# Altium schematic symbol library SNES TST.SCHLIB: 44 symbols
Pins are listed as number, name and electrical type; pins without a type are passive.

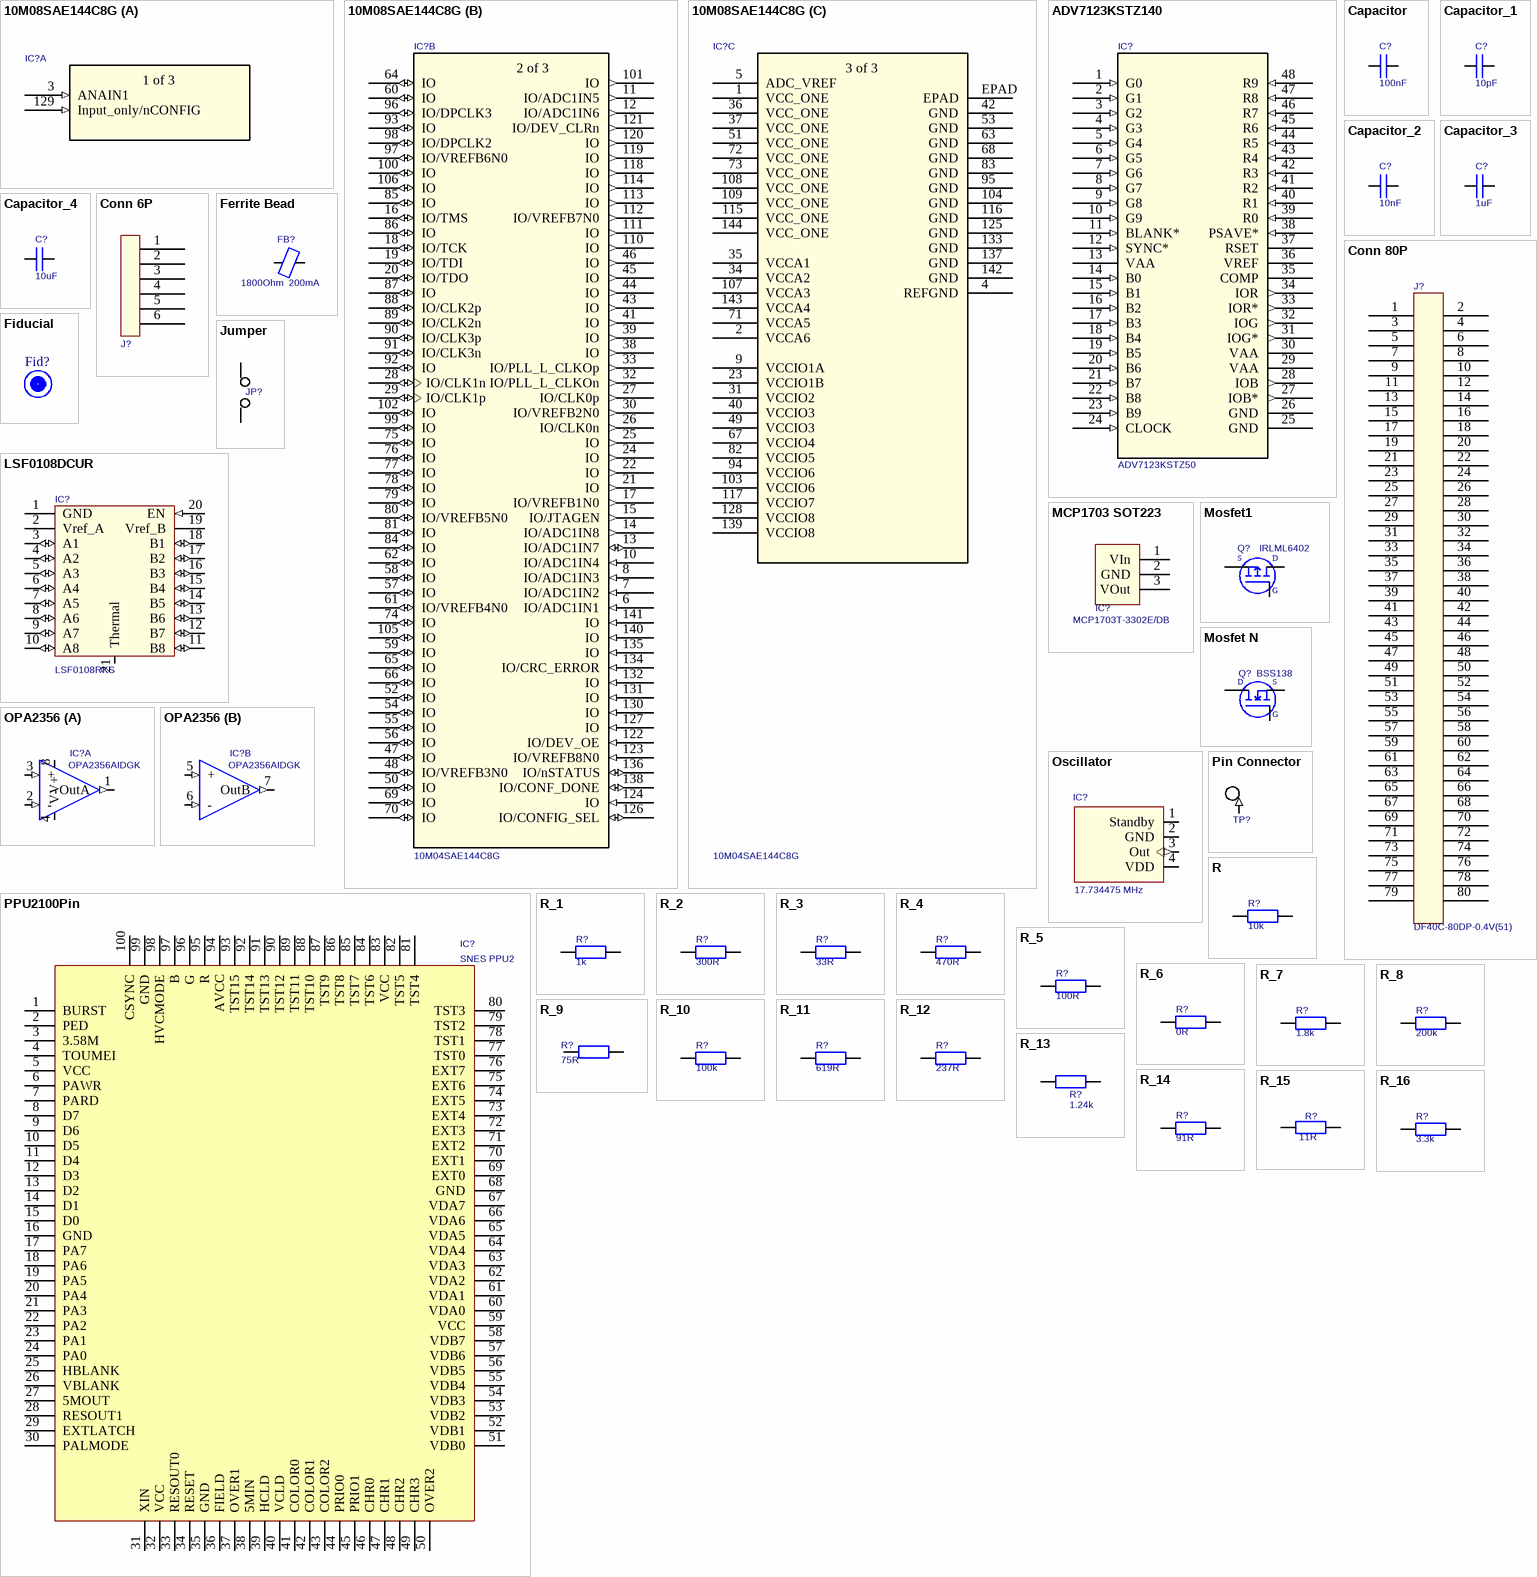
[diagram p0: symbols 10M08SAE144C8G to R_16]

## 10M08SAE144C8G
designator IC?, comment 10M04SAE144C8G
No Description Available; Manufacturer_Part_Number: 10M08SAE144C8G; SourceLibrary: Intel_2020-01-10; Built_By: EMA_Cory; Vendor: Intel; Copyright: Copyright (C) 2018 Accelerated Designs. All rights reserved; RefDes: RefDes; Type: DEV
footprint EQFP-144_A:1P65_
part A pins: 3 ANAIN1 (in), 129 Input_only/nCONFIG (in)
part B pins: 6 IO/ADC1IN1 (in), 7 IO/ADC1IN2 (in), 8 IO/ADC1IN3 (in), 10 IO/ADC1IN4 (in), 11 IO/ADC1IN5 (out), 12 IO/ADC1IN6 (out), 13 IO/ADC1IN7 (io), 14 IO/ADC1IN8 (out), 15 IO/JTAGEN (out), 16 IO/TMS (io), 17 IO/VREFB1N0 (out), 18 IO/TCK (io), 19 IO/TDI (io), 20 IO/TDO (io), 21 IO (out), 22 IO (out), 24 IO (out), 25 IO (out), 26 IO/CLK0n (out), 27 IO/CLK0p (out), 28 IO/CLK1n (io), 29 IO/CLK1p (io), 30 IO/VREFB2N0 (out), 32 IO/PLL_L_CLKOn (out), 33 IO/PLL_L_CLKOp (out), 38 IO (out), 39 IO (out), 41 IO (out), 43 IO (out), 44 IO (out), 45 IO (out), 46 IO (out), 47 IO (io), 48 IO/VREFB3N0 (io), 50 IO (io), 52 IO (io), 54 IO (io), 55 IO (io), 56 IO (io), 57 IO (io), 58 IO (io), 59 IO (io), 60 IO (io), 61 IO/VREFB4N0 (io), 62 IO (io), 64 IO (io), 65 IO (io), 66 IO (io), 69 IO (io), 70 IO (io), 74 IO (io), 75 IO (io), 76 IO (io), 77 IO (io), 78 IO (io), 79 IO (io), 80 IO/VREFB5N0 (io), 81 IO (io), 84 IO (io), 85 IO (io), 86 IO (io), 87 IO (io), 88 IO/CLK2p (io), 89 IO/CLK2n (io), 90 IO/CLK3p (io), 91 IO/CLK3n (io), 92 IO (io), 93 IO (io), 96 IO/DPCLK3 (io), 97 IO/VREFB6N0 (io), 98 IO/DPCLK2 (io), 99 IO (io), 100 IO (io), 101 IO (out), 102 IO (io), 105 IO (io), 106 IO (io), 110 IO (out), 111 IO (out), 112 IO/VREFB7N0 (out), 113 IO (out), 114 IO (out), 118 IO (out), 119 IO (out), 120 IO (out), 121 IO/DEV_CLRn (out), 122 IO/DEV_OE (in), 123 IO/VREFB8N0 (in), 124 IO (in), 126 IO/CONFIG_SEL (io), 127 IO (in), 130 IO (in), 131 IO (in), 132 IO (in), 134 IO/CRC_ERROR (in), 135 IO (in), 136 IO/nSTATUS (io), 138 IO/CONF_DONE (io), 140 IO (in), 141 IO (in)
part C pins: 1 VCC_ONE (power), 2 VCCA6 (power), 4 REFGND, 5 ADC_VREF (power), 9 VCCIO1A (power), 23 VCCIO1B (power), 31 VCCIO2 (power), 34 VCCA2 (power), 35 VCCA1 (power), 36 VCC_ONE (power), 37 VCC_ONE (power), 40 VCCIO3 (power), 42 GND, 49 VCCIO3 (power), 51 VCC_ONE (power), 53 GND, 63 GND, 67 VCCIO4 (power), 68 GND, 71 VCCA5 (power), 72 VCC_ONE (power), 73 VCC_ONE (power), 82 VCCIO5 (power), 83 GND, 94 VCCIO6 (power), 95 GND, 103 VCCIO6 (power), 104 GND, 107 VCCA3 (power), 108 VCC_ONE (power), 109 VCC_ONE (power), 115 VCC_ONE (power), 116 GND, 117 VCCIO7 (power), 125 GND, 128 VCCIO8 (power), 133 GND, 137 GND, 139 VCCIO8 (power), 142 GND, 143 VCCA4 (power), 144 VCC_ONE (power), EPAD
part A text: 1 of 3
part B text: 2 of 3
part C text: 3 of 3

## ADV7123KSTZ140
designator IC?, comment Manufacturer_Part_Number: ADV7123KSTZ50  (hidden comment: ADV7123)
10Bit Video DAC; Vendor: Analog Devices Inc; Built_By: EMA_UL_Team; SourceLibrary: Analog_2012-01-01_8; Copyright: Copyright (C) 2018 Accelerated Designs. All rights reserved; RefDes: RefDes; Type: DEV
footprint ST_48_ADI
pins: 1 G0 (in), 2 G1 (in), 3 G2 (in), 4 G3 (in), 5 G4 (in), 6 G5 (in), 7 G6 (in), 8 G7 (in), 9 G8 (in), 10 G9 (in), 11 BLANK* (in), 12 SYNC* (in), 13 VAA (power), 14 B0 (in), 15 B1 (in), 16 B2 (in), 17 B3 (in), 18 B4 (in), 19 B5 (in), 20 B6 (in), 21 B7 (in), 22 B8 (in), 23 B9 (in), 24 CLOCK (in), 25 GND (power), 26 GND (power), 27 IOB* (out), 28 IOB (out), 29 VAA (power), 30 VAA (power), 31 IOG* (out), 32 IOG (out), 33 IOR* (out), 34 IOR (out), 35 COMP, 36 VREF, 37 RSET, 38 PSAVE* (in), 39 R0 (in), 40 R1 (in), 41 R2 (in), 42 R3 (in), 43 R4 (in), 44 R5 (in), 45 R6 (in), 46 R7 (in), 47 R8 (in), 48 R9 (in)

## Capacitor
designator C?, comment 100nF
Nominal Voltage: 10V; Dielectric: X7R; Tolerance: +-20%; Value: 100nF
footprint 0201_Chip
footprint 0603_Chip Plated Via
footprint 2220_CHIP (Chip Capacitor, 2-Leads, Body 5,70x5,00mm, IPC Medium Density)
footprint 1812_CHIP
footprint 0402_Chip_RF
footprint Cap_0402_Chip
footprint Cap_0603_Chip
footprint Cap_0805_Chip
footprint Cap_1206_Chip
pins: 1, 2

## Capacitor_1
designator C?, comment 10pF
Nominal Voltage: 10V; Dielectric: X7R; Tolerance: +-20%; Value: 10pF
footprint 0201_Chip
footprint 0603_Chip Plated Via
footprint 2220_CHIP (Chip Capacitor, 2-Leads, Body 5,70x5,00mm, IPC Medium Density)
footprint 1812_CHIP
footprint 0402_Chip_RF
footprint Cap_0402_Chip
footprint Cap_0603_Chip
footprint Cap_0805_Chip
footprint Cap_1206_Chip
pins: 1, 2

## Capacitor_2
designator C?, comment 10nF
Nominal Voltage: 10V; Dielectric: X7R; Tolerance: +-20%; Value: 10nF
footprint 0201_Chip
footprint 0603_Chip Plated Via
footprint 2220_CHIP (Chip Capacitor, 2-Leads, Body 5,70x5,00mm, IPC Medium Density)
footprint 1812_CHIP
footprint 0402_Chip_RF
footprint Cap_0402_Chip
footprint Cap_0603_Chip
footprint Cap_0805_Chip
footprint Cap_1206_Chip
pins: 1, 2

## Capacitor_3
designator C?, comment 1uF
Nominal Voltage: 10V; Dielectric: X7R; Tolerance: +-20%; Value: 1uF
footprint 0201_Chip
footprint 0603_Chip Plated Via
footprint 2220_CHIP (Chip Capacitor, 2-Leads, Body 5,70x5,00mm, IPC Medium Density)
footprint 1812_CHIP
footprint 0402_Chip_RF
footprint Cap_0402_Chip
footprint Cap_0603_Chip
footprint Cap_0805_Chip
footprint Cap_1206_Chip
pins: 1, 2

## Capacitor_4
designator C?, comment 10uF
Nominal Voltage: 25V; Dielectric: X7R; Tolerance: +-20%; Value: 10uF
footprint 0201_Chip
footprint 0603_Chip Plated Via
footprint 2220_CHIP (Chip Capacitor, 2-Leads, Body 5,70x5,00mm, IPC Medium Density)
footprint 1812_CHIP
footprint 0402_Chip_RF
footprint Cap_0402_Chip
footprint Cap_0603_Chip
footprint Cap_0805_Chip
footprint Cap_1206_Chip
pins: 1, 2

## Conn 6P
designator J?  (value not drawn)
6 Pole Connector
footprint Con6P
pins: 1, 2, 3, 4, 5, 6

## Conn 80P
designator J?, comment Manufacturer_Part_Number: DF40C-80DP-0.4V(51)  (hidden comment: 80Pole Connector)
Vendor: Hirose Connector
footprint DF40C-80DS
footprint DF40C-80DP
pins: 1, 2, 3, 4, 5, 6, 7, 8, 9, 10, 11, 12, 13, 14, 15, 16, 17, 18, 19, 20, 21, 22, 23, 24, 25, 26, 27, 28, 29, 30, 31, 32, 33, 34, 35, 36, 37, 38, 39, 40, 41, 42, 43, 44, 45, 46, 47, 48, 49, 50, 51, 52, 53, 54, 55, 56, 57, 58, 59, 60, 61, 62, 63, 64, 65, 66, 67, 68, 69, 70, 71, 72, 73, 74, 75, 76, 77, 78, 79, 80

## Ferrite Bead
designator FB?, comment 1800Ohm  200mA
Manufacturer_Part_Number: MMZ1005S182ET000; Vendor: TDK; Value: 1800Ohm  200mA
footprint 0201_Chip
footprint 0603_Chip
footprint 0805_Chip
footprint 1206_Chip
footprint 1210_Chip
footprint 1812_Chip
footprint Ind_0402_Chip
pins: 1, 2

## Fiducial
designator Fid?  (value not drawn)
footprint Fiducial_1_side

## Jumper
designator JP?  (value not drawn)
footprint Jumper
footprint Jumper Big
pins: 1 0, 2 0

## LSF0108DCUR
designator IC?, comment Manufacturer_Part_Number: LSF0108RKS  (hidden comment: LSF0108)
8-bit level shifter; Vendor: Texas Instruments
footprint VQFN20 (QFN, 20-Leads, Body 2.50x4.50mm, Pitch 0.50mm, Thermal Pad 1.00x3.00mm, IPC Low Density)
pins: 1 GND (power), 2 Vref_A (power), 3 A1 (io), 4 A2 (io), 5 A3 (io), 6 A4 (io), 7 A5 (io), 8 A6 (io), 9 A7 (io), 10 A8 (io), 11 B8 (io), 12 B7 (io), 13 B6 (io), 14 B5 (io), 15 B4 (io), 16 B3 (io), 17 B2 (io), 18 B1 (io), 19 Vref_B (power), 20 EN (in), 21 Thermal

## MCP1703 SOT223
designator IC?, comment Manufacturer_Part_Number: MCP1703T-3302E/DB  (hidden comment: MCP1703T)
3.3V Regulator; Vendor: Microchip
footprint SOT223-3 (SOT223, 4-Leads, Body 6.50x7.00mm (avg), Pitch 2.30mm, IPC Medium Density)
pins: 1 VIn, 2 GND, 3 VOut

## Mosfet1
designator Q?, comment IRLML6402
Vendor: Diodes; Manufacturer_Part_Number: IRLML6402
footprint SOT23_FET
pins: D, G, S

## Mosfet N
designator Q?, comment BSS138
Vendor: Infenion; Manufacturer_Part_Number: BSS138
footprint SOT23_FET
pins: D, G, S

## OPA2356
designator IC?  Manufacturer_Part_Number: OPA2356AIDGK  (hidden comment: OPA2356)
Vendor: Analog Devices
footprint MSOP8 (TSOP, 8-Leads, Body 3.00x3.00mm, Pitch 0.65mm, IPC Medium Density)
part A pins: 1 OutA (out), 2 - (in), 3 + (in), 4 V- (power), 8 V+ (power)
part B pins: 5 + (in), 6 - (in), 7 OutB (out)

## Oscillator
designator IC?, comment 17.734475 MHz
Oscillator; Manufacturer_Part_Number: LFSPXO020648Bulk; Vendor: IQD Frequency; Frequency: 17.734475 MHz
footprint Quarz 7.5mm
pins: 1 Standby, 2 GND (power), 3 Out (out), 4 VDD (power)

## Pin Connector
designator TP?  (value not drawn)
footprint Pin Connector
footprint Pin Connector Small
footprint Pin Connector With Hole
footprint Pin Connector Only Hole
pins: 1 0 (in)

## PPU2100Pin
designator IC?, comment SNES PPU2
PPU2; Vendor: Nintendo; Manufacturer_Part_Number: PPU2
footprint PPU100Pin
footprint PPU100Pin_Bottom_TOP_View
pins: 1 BURST, 2 PED, 3 3.58M, 4 TOUMEI, 5 VCC, 6 PAWR, 7 PARD, 8 D7, 9 D6, 10 D5, 11 D4, 12 D3, 13 D2, 14 D1, 15 D0, 16 GND, 17 PA7, 18 PA6, 19 PA5, 20 PA4, 21 PA3, 22 PA2, 23 PA1, 24 PA0, 25 HBLANK, 26 VBLANK, 27 5MOUT, 28 RESOUT1, 29 EXTLATCH, 30 PALMODE, 31 XIN, 32 VCC, 33 RESOUT0, 34 RESET, 35 GND, 36 FIELD, 37 OVER1, 38 5MIN, 39 HCLD, 40 VCLD, 41 COLOR0, 42 COLOR1, 43 COLOR2, 44 PRIO0, 45 PRIO1, 46 CHR0, 47 CHR1, 48 CHR2, 49 CHR3, 50 OVER2, 51 VDB0, 52 VDB1, 53 VDB2, 54 VDB3, 55 VDB4, 56 VDB5, 57 VDB6, 58 VDB7, 59 VCC, 60 VDA0, 61 VDA1, 62 VDA2, 63 VDA3, 64 VDA4, 65 VDA5, 66 VDA6, 67 VDA7, 68 GND, 69 EXT0, 70 EXT1, 71 EXT2, 72 EXT3, 73 EXT4, 74 EXT5, 75 EXT6, 76 EXT7, 77 TST0, 78 TST1, 79 TST2, 80 TST3, 81 TST4, 82 TST5, 83 VCC, 84 TST6, 85 TST7, 86 TST8, 87 TST9, 88 TST10, 89 TST11, 90 TST12, 91 TST13, 92 TST14, 93 TST15, 94 AVCC, 95 R, 96 G, 97 B, 98 HVCMODE, 99 GND, 100 CSYNC

## R
designator R?, comment 10k
Tolerance: +-1%; Value: 10k
footprint 0201_Chip
footprint 0805_Chip
footprint 1206_Chip
footprint 1210_Chip
footprint 1812_Chip
footprint 2512_CHIP
footprint Res_0402_Chip
footprint Res_0603_Chip
pins: 1, 2

## R_1
designator R?, comment 1k
Tolerance: +-1%; Value: 1k
footprint 0201_Chip
footprint 0805_Chip
footprint 1206_Chip
footprint 1210_Chip
footprint 1812_Chip
footprint 2512_CHIP
footprint Res_0402_Chip
footprint Res_0603_Chip
pins: 1, 2

## R_2
designator R?, comment 300R
Tolerance: +-1%; Value: 300R
footprint 0201_Chip
footprint 0805_Chip
footprint 1206_Chip
footprint 1210_Chip
footprint 1812_Chip
footprint 2512_CHIP
footprint Res_0402_Chip
footprint Res_0603_Chip
pins: 1, 2

## R_3
designator R?, comment 33R
Tolerance: +-1%; Value: 33R
footprint 0201_Chip
footprint 0805_Chip
footprint 1206_Chip
footprint 1210_Chip
footprint 1812_Chip
footprint 2512_CHIP
footprint Res_0402_Chip
footprint Res_0603_Chip
pins: 1, 2

## R_4
designator R?, comment 470R
Tolerance: +-1%; Value: 470R
footprint 0201_Chip
footprint 0805_Chip
footprint 1206_Chip
footprint 1210_Chip
footprint 1812_Chip
footprint 2512_CHIP
footprint Res_0402_Chip
footprint Res_0603_Chip
pins: 1, 2

## R_5
designator R?, comment 100R
Tolerance: +-1%; Value: 100R
footprint 0201_Chip
footprint 0805_Chip
footprint 1206_Chip
footprint 1210_Chip
footprint 1812_Chip
footprint 2512_CHIP
footprint Res_0402_Chip
footprint Res_0603_Chip
pins: 1, 2

## R_6
designator R?, comment 0R
Value: 0R
footprint 0201_Chip
footprint 0805_Chip
footprint 1206_Chip
footprint 1210_Chip
footprint 1812_Chip
footprint 2512_CHIP
footprint Res_0402_Chip
footprint Res_0603_Chip
pins: 1, 2

## R_7
designator R?, comment 1.8k
Tolerance: +-1%; Value: 1.8k
footprint 0201_Chip
footprint 0805_Chip
footprint 1206_Chip
footprint 1210_Chip
footprint 1812_Chip
footprint 2512_CHIP
footprint Res_0402_Chip
footprint Res_0603_Chip
pins: 1, 2

## R_8
designator R?, comment 200k
Tolerance: +-1%; Value: 200k
footprint 0201_Chip
footprint 0805_Chip
footprint 1206_Chip
footprint 1210_Chip
footprint 1812_Chip
footprint 2512_CHIP
footprint Res_0402_Chip
footprint Res_0603_Chip
pins: 1, 2

## R_9
designator R?, comment 75R
Tolerance: +-1%; Value: 75R
footprint 0201_Chip
footprint 0805_Chip
footprint 1206_Chip
footprint 1210_Chip
footprint 1812_Chip
footprint 2512_CHIP
footprint Res_0402_Chip
footprint Res_0603_Chip
pins: 1, 2

## R_10
designator R?, comment 100k
Tolerance: +-1%; Value: 100k
footprint 0201_Chip
footprint 0805_Chip
footprint 1206_Chip
footprint 1210_Chip
footprint 1812_Chip
footprint 2512_CHIP
footprint Res_0402_Chip
footprint Res_0603_Chip
pins: 1, 2

## R_11
designator R?, comment 619R
Tolerance: +-1%; Value: 619R
footprint 0201_Chip
footprint 0805_Chip
footprint 1206_Chip
footprint 1210_Chip
footprint 1812_Chip
footprint 2512_CHIP
footprint Res_0402_Chip
footprint Res_0603_Chip
pins: 1, 2

## R_12
designator R?, comment 237R
Tolerance: +-1%; Value: 237R
footprint 0201_Chip
footprint 0805_Chip
footprint 1206_Chip
footprint 1210_Chip
footprint 1812_Chip
footprint 2512_CHIP
footprint Res_0402_Chip
footprint Res_0603_Chip
pins: 1, 2

## R_13
designator R?, comment 1.24k
Tolerance: +-1%; Value: 1.24k
footprint 0201_Chip
footprint 0805_Chip
footprint 1206_Chip
footprint 1210_Chip
footprint 1812_Chip
footprint 2512_CHIP
footprint Res_0402_Chip
footprint Res_0603_Chip
pins: 1, 2

## R_14
designator R?, comment 91R
Tolerance: +-1%; Value: 91R
footprint 0201_Chip
footprint 0805_Chip
footprint 1206_Chip
footprint 1210_Chip
footprint 1812_Chip
footprint 2512_CHIP
footprint Res_0402_Chip
footprint Res_0603_Chip
pins: 1, 2

## R_15
designator R?, comment 11R
Tolerance: +-1%; Value: 11R
footprint 0201_Chip
footprint 0805_Chip
footprint 1206_Chip
footprint 1210_Chip
footprint 1812_Chip
footprint 2512_CHIP
footprint Res_0402_Chip
footprint Res_0603_Chip
pins: 1, 2

## R_16
designator R?, comment 3.3k
Tolerance: +-1%; Value: 3.3k
footprint 0201_Chip
footprint 0805_Chip
footprint 1206_Chip
footprint 1210_Chip
footprint 1812_Chip
footprint 2512_CHIP
footprint Res_0402_Chip
footprint Res_0603_Chip
pins: 1, 2

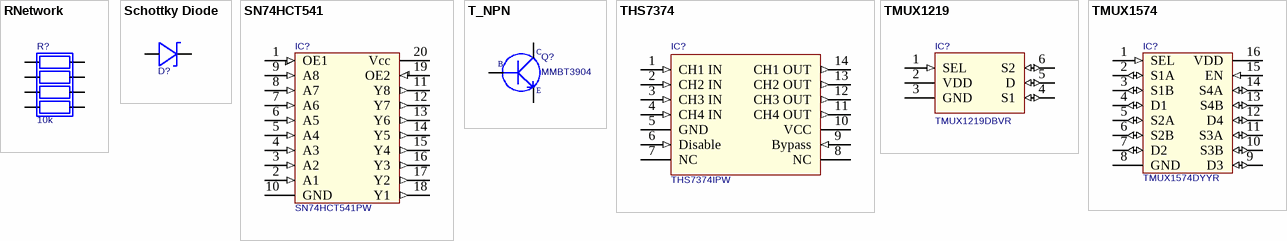
[diagram p1: symbols RNetwork to TMUX1574]

## RNetwork
designator R?, comment 10k
Tolerance: +-1%; Value: 10k
footprint 1206_Array_Chip (Chip Array, Concave, 8-Leads, Pitch 0.80mm,  Body 3.20x1.60mm,  IPC Medium Density)
pins: 1, 2, 3, 4, 5, 6, 7, 8

## Schottky Diode
designator D?  (value not drawn)
Manufacturer_Part_Number: BAT54WS-7-F; Vendor: Diodes
footprint SOT23
footprint SOD323 (SODFL, 2-Leads, Body 1.25x2.50mm, IPC Medium Density)
pins: 1 K, 2 A

## SN74HCT541
designator IC?  Manufacturer_Part_Number: SN74HCT541PW  (hidden comment: SN74HCT541)
Vendor: Texas Instruments
footprint TSSOP20 Narrow (TSOP, 20-Leads, Body 6,50x4,40mm, Pitch 0,65mm, IPC Medium Density)
pins: 1 OE1 (in), 2 A1 (in), 3 A2 (in), 4 A3 (in), 5 A4 (in), 6 A5 (in), 7 A6 (in), 8 A7 (in), 9 A8 (in), 10 GND (power), 11 Y8 (out), 12 Y7 (out), 13 Y6 (out), 14 Y5 (out), 15 Y4 (out), 16 Y3 (out), 17 Y2 (out), 18 Y1 (out), 19 OE2 (in), 20 Vcc (power)

## T_NPN
designator Q?, comment MMBT3904
Vendor: Diodes; Manufacturer_Part_Number: MMBT3904
footprint SOT23_Transistor
pins: B, C, E

## THS7374
designator IC?  Manufacturer_Part_Number: THS7374IPW  (hidden comment: THS7374)
Vendor: Texas Instruments
footprint TSSOP14
pins: 1 CH1 IN (in), 2 CH2 IN (in), 3 CH3 IN (in), 4 CH4 IN (in), 5 GND (power), 6 Disable (in), 7 NC, 8 NC, 9 Bypass (in), 10 VCC (power), 11 CH4 OUT (out), 12 CH3 OUT (out), 13 CH2 OUT (out), 14 CH1 OUT (out)

## TMUX1219
designator IC?  Manufacturer_Part_Number: TMUX1219DBVR  (hidden comment: TMUX1219)
2:1 MUX; Vendor: Texas Instruments
footprint SOT23-6 (SOT23, 5-Leads, Body 2,90x2,80mm, Pitch 0,95mm, IPC Medium Density)
pins: 1 SEL (in), 2 VDD (power), 3 GND (power), 4 S1 (io), 5 D (io), 6 S2 (io)

## TMUX1574
designator IC?  Manufacturer_Part_Number: TMUX1574DYYR  (hidden comment: TMUX1574)
SPDT 4 Ch; Vendor: Texas Instruments
footprint SOT-23THIN16 (TSSOP, 16-Leads, Body 4.20x2.00mm, Pitch 0.50mm, IPC Medium Density)
pins: 1 SEL (in), 2 S1A (io), 3 S1B (io), 4 D1 (io), 5 S2A (io), 6 S2B (io), 7 D2 (io), 8 GND (power), 9 D3 (io), 10 S3B (io), 11 S3A (io), 12 D4 (io), 13 S4B (io), 14 S4A (io), 15 EN (in), 16 VDD (power)